# EAGLE library part TMC2100_QFN36 (library TMC2100_QFN)
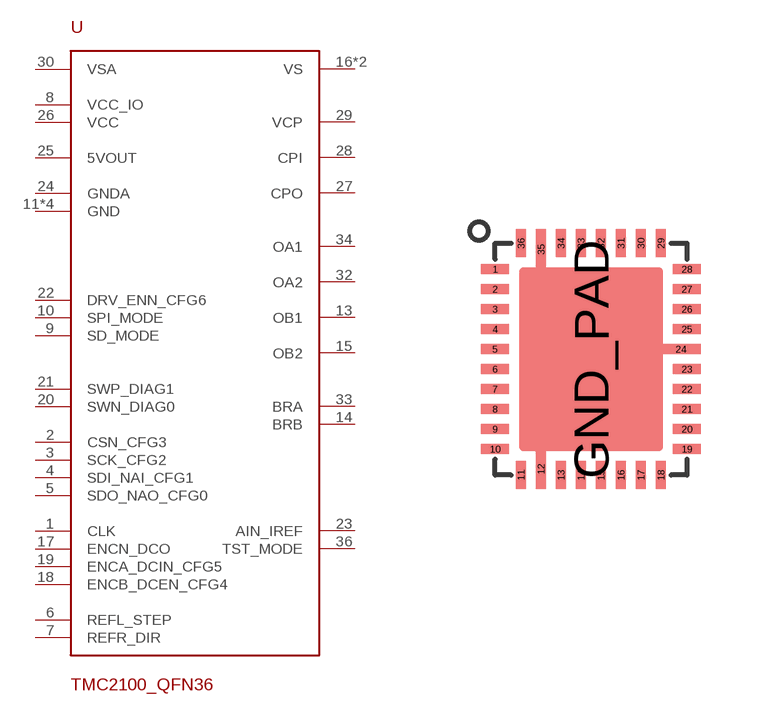
[diagram p0: symbol with the pads of QFN36; footprint QFN36]

Designator prefix -

## TMC2100_QFN36  [QFN36]
1  CLK
2  CSN_CFG3
3  SCK_CFG2
4  SDI_NAI_CFG1
5  SDO_NAO_CFG0
6  REFL_STEP
7  REFR_DIR
8  VCC_IO
9  SD_MODE
10  SPI_MODE
11  GND
12  GND
13  OB1
14  BRB
15  OB2
16  VS
17  ENCN_DCO
18  ENCB_DCEN_CFG4
19  ENCA_DCIN_CFG5
20  SWN_DIAG0
21  SWP_DIAG1
22  DRV_ENN_CFG6
23  AIN_IREF
24  GNDA
25  5VOUT
26  VCC
27  CPO
28  CPI
29  VCP
30  VSA
31  VS
32  OA2
33  BRA
34  OA1
35  GND
36  TST_MODE
GND_PAD  GND

## Footprint QFN36 (pad centres in mm)
smd 0.7 x 0.25: 1 -2.4,2.25; 2 -2.4,1.75; 3 -2.4,1.25; 4 -2.4,0.75; 5 -2.4,0.25; 6 -2.4,-0.25; 7 -2.4,-0.75; 8 -2.4,-1.25; 9 -2.4,-1.75; 10 -2.4,-2.25; 19 2.4,-2.25; 20 2.4,-1.75; 21 2.4,-1.25; 22 2.4,-0.75; 23 2.4,-0.25; 25 2.4,0.75; 26 2.4,1.25; 27 2.4,1.75; 28 2.4,2.25
smd 0.25 x 0.7: 11 -1.75,-2.9; 13 -0.75,-2.9; 14 -0.25,-2.9; 15 0.25,-2.9; 16 0.75,-2.9; 17 1.25,-2.9; 18 1.75,-2.9; 29 1.75,2.9; 30 1.25,2.9; 31 0.75,2.9; 32 0.25,2.9; 33 -0.25,2.9; 34 -0.75,2.9; 36 -1.75,2.9
smd 0.25 x 1: 12 -1.25,-2.75; 35 -1.25,2.75
smd 1 x 0.25: 24 2.25,0.25
smd 3.6 x 4.6: GND_PAD 0,0